# Altium integrated library RSX_Test_Points.IntLib: 2 symbols
Pins are listed as number, name and electrical type; pins without a type are passive.

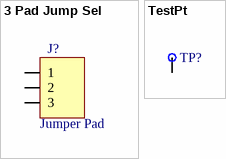
[diagram p0: symbols 3 Pad Jump Sel to TestPt]

## 3 Pad Jump Sel
designator J?, comment Jumper Pad
footprint 3 Pad TH
pins: 1, 2, 3

## TestPt
designator TP?  (value not drawn)
footprint 50_MIL_PAD
footprint TH_1MM_PAD
pins: 1